# EAGLE library part CON-FH19-13 (library m-pad-2.1)
Hirose FH19 & FH19S Series 0.5mm pitch, 0.9mm above the board, Flexible Printed Circuit & Flexible Flat Cable Connectors Features: 1. Low-profile 0.5mm pitch FPC, FFC Connectors Miniaturization of portable equipment and personal mobile devices has created increased demand for a low profile, high density, and high reliability connectors. *The design of this connector has been made thinner and smaller, with a height of 0.9mm and width of 3mm. [As of August 2002, this is the smallest connector of this type available on the market !] *PCB footprint: Reduced approximately 48% (as compared with Hirose Electric's 0.5mm pitch FH12 Series connectors) *Connector weight: Reduced approximately 78% (as compared with Hirose Electric's 0.5mm pitch FH12 Series connectors) 2. Conductive traces on the PCB can be designed to run under the connector All bottom surface of the connector is solid, without any exposure of the contact. 3. Proven Flip-Lock Actuator System assures easy and reliable operation Rotating actuator permits easy insertion and reliable connection with the FPC & FFC. Tactile sensation confirms complete mechanical locking of the actuator and the electrical connection. 4. Accepts 0.2mm & 0.3mm thick FPC, FFC Accepts 0.2mm & 0.3mm thick FPC, FFC, easy inserted in the connector. The connector will also terminate successfully with 0.2mm thick Flat Flexible Cable (FFC). 5. Designed for placement with automatic equipment Packaged in embossed tape, on reel. One reel contains 5,000 pieces. 6. Environmental considerations The center cores of the embossed tape reels are made of paper, unlike typical cores made of styrofoam. Applications: Notebook PC's, PDA's, digital cameras and other compact devices requiring interconnections of the main circuit board with the LCD, plasma display (PDP), HDD or other devices. Please send any comments to: messi@users.sourceforge.net
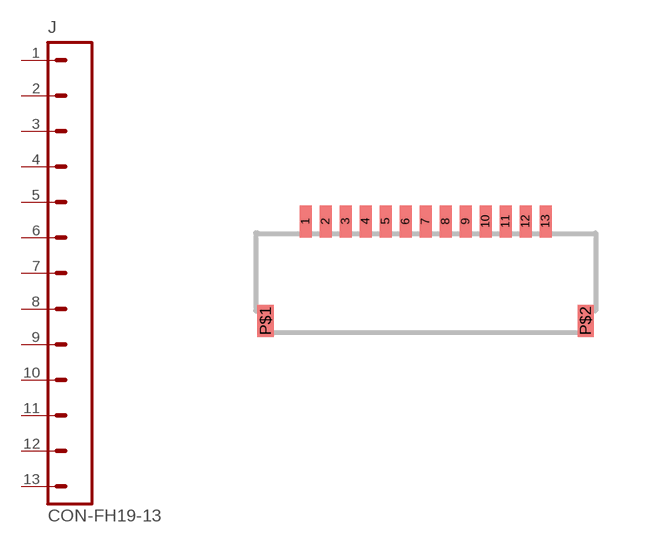
[diagram p92: symbol with the pads of CON-FH19-13; footprint CON-FH19-13]

Designator prefix J

## CON-FH19-13  [CON-FH19-13]
1  1  pas
2  2  pas
3  3  pas
4  4  pas
5  5  pas
6  6  pas
7  7  pas
8  8  pas
9  9  pas
10  10  pas
11  11  pas
12  12  pas
13  13  pas

## Footprint CON-FH19-13 (pad centres in mm)
Hirose FH19 13pin 0.5mm pitch FPC/FFC connector
smd 0.3 x 0.8: 1 -3,2.49; 2 -2.5,2.49; 3 -2,2.49; 4 -1.5,2.49; 5 -1,2.49; 6 -0.5,2.49; 7 0,2.49; 8 0.5,2.49; 9 1,2.49; 10 1.5,2.49; 11 2,2.49; 12 2.5,2.49; 13 3,2.49
smd 0.4 x 0.8: P$1 -4,0; P$2 4,0